# EAGLE library part STG3157CTR (library STG3157CTR)
1 Circuit IC Switch 2:1 15 Ohm SOT-323-6L
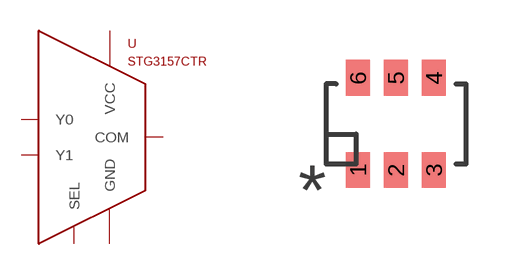
[diagram p0: symbol with the pads of SOT23-6; footprint SOT23-6]

Designator prefix U

## STG3157CTR (Availability: Unavailable; Description: 1 Circuit IC Switch 2:1 15Ohm SOT-323-6L; MF: STMicroelectronics; MP: STG3157CTR; Package: SOT-323 STMicroelectronics; Price: None)  [SOT23-6]
1  Y0  pas
2  GND  pas
3  Y1  pas
4  COM  pas
5  VCC  pas
6  SEL  pas

## Footprint SOT23-6 (pad centres in mm)
smd 0.6 x 0.9: 1 -0.95,-1.15; 2 0,-1.15; 3 0.95,-1.15; 4 0.95,1.15; 5 0,1.15; 6 -0.95,1.15